# EAGLE library part MAX3227E* (library maxim)
3V to 5.5V Single-Channel RS-232 Line Driver/Receiver with ±15-kV IEC ESD Protection Meets or Exceeds the Requirements of TIA/EIA-232-F and ITU v.28 Standards Equipment Operates With 3-V to 5.5-V VCC Supply Operates at Least 1 Mbit/s Low Standby Current: 1µA Typ External Capacitors: (4) 0.1µF Ceramic or Polarized Accepts 5-V Logic Input With 3.3-V Supply Designed to Be Interchangeable With Maxim™ MAX3227E From TI document SLLS715A, Feb 2006, Revised June 2007
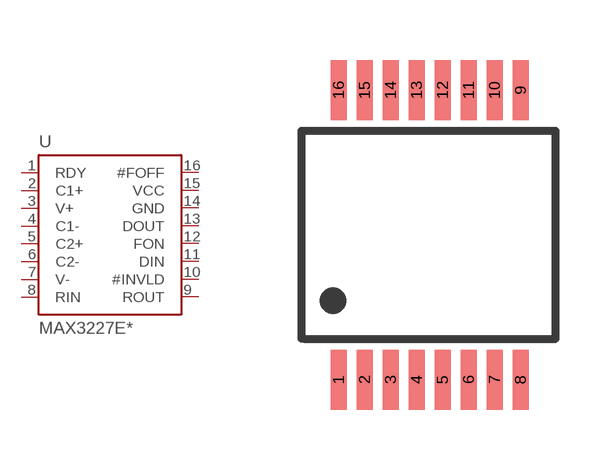
[diagram p1: symbol with the pads of SSOP16; footprint SSOP16]

Designator prefix U

## MAX3227E  [SSOP16]
1  RDY  out
2  C1+  pas
3  V+  pas
4  C1-  pas
5  C2+  pas
6  C2-  pas
7  V-  pas
8  RIN  in
9  ROUT  out
10  #INVLD  out
11  DIN  in
12  FON  in
13  DOUT  out
14  GND  pwr
15  VCC  pwr
16  #FOFF  in

## Footprint SSOP16 (pad centres in mm)
Shrink Small Outline Package package type SS
smd 0.4 x 1.5: 1 -2.275,-3.625; 2 -1.625,-3.625; 3 -0.975,-3.625; 4 -0.325,-3.625; 5 0.325,-3.625; 6 0.975,-3.625; 7 1.625,-3.625; 8 2.275,-3.625; 9 2.275,3.625; 10 1.625,3.625; 11 0.975,3.625; 12 0.325,3.625; 13 -0.325,3.625; 14 -0.975,3.625; 15 -1.625,3.625; 16 -2.275,3.625